# Altium schematic symbol library Res_TE_Connectivity_CFR16J120R_eec.SchLib: 2 symbols
Pins are listed as number, name and electrical type; pins without a type are passive.

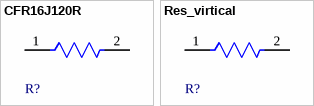
[diagram p0: symbols CFR16J120R to Res_virtical]

## CFR16J120R
designator R?  (value not drawn)
footprint TE_Connectivity_CFR16_MFG
pins: 1, 2

## Res_virtical
designator R?  (value not drawn)
footprint TH_Resistor_vertical
pins: 1, 2